# Altium footprint library Temperature sensor.PcbLib: 3 footprints
Each footprint in its own frame and in the unit in brackets; x right, y up, seen from the top. Pads: shape width x height; smd on the part's side, far side on the other; paste and mask are expansions set on the pad; w line width, h text height; cw(c..) or ccw(c..) is an arc to the next point about the centre after c.
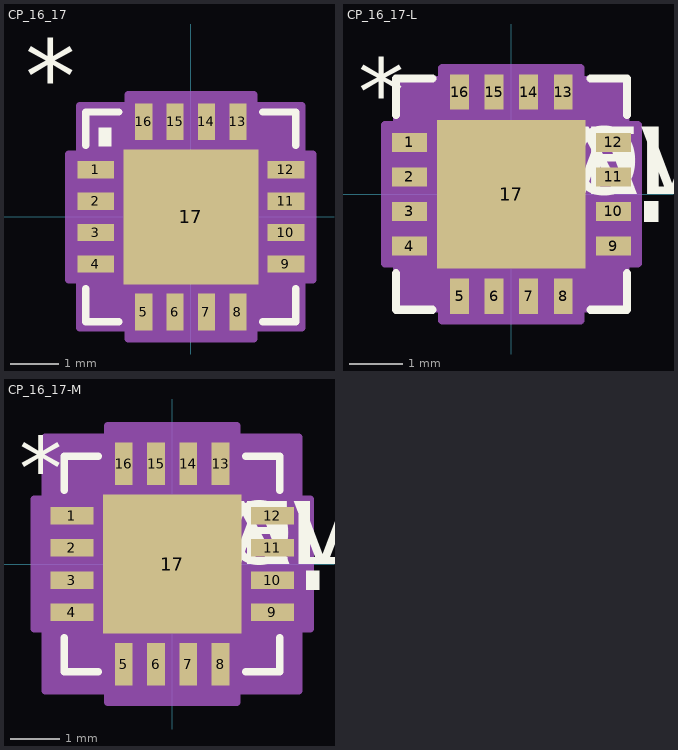
[diagram p0: the footprints below, top view; thin cyan lines are the x and y axes]

## CP_16_17 [mil]
pads (17):
  rect 30x14 smd: 1(-77.5,38.39) 2(-77.5,12.8) 3(-77.5,-12.8) 4(-77.5,-38.39) 9(77.5,-38.39) 10(77.5,-12.8) 11(77.5,12.8) 12(77.5,38.39)
  rect 14x30 smd: 5(-38.39,-77.5) 6(-12.8,-77.5) 7(12.8,-77.5) 8(38.39,-77.5) 13(38.39,77.5) 14(12.8,77.5) 15(-12.8,77.5) 16(-38.39,77.5)
  rect 110x110 smd paste-54.5: 17(0,0)
Top Overlay:
  region: -75,72.5 -65,72.5 -65,57.5 -75,57.5
  lines w6: -85.5,-58.49 -85.5,-85.5 -58.49,-85.5 ; -85.5,58.49 -85.5,85.5 -58.49,85.5 ; 58.49,-85.5 85.5,-85.5 85.5,-58.49 ; 58.49,85.5 85.5,85.5 85.5,58.49
  text "*" at -135,85 h60
Top Paste:
  region: 51.06,-3.94 3.94,-3.94 3.94,-51.06 51.06,-51.06
  region: 51.06,51.06 3.94,51.06 3.94,3.94 51.06,3.94
  region: -3.94,-3.94 -51.06,-3.94 -51.06,-51.06 -3.94,-51.06
  region: -3.94,51.06 -51.06,51.06 -51.06,3.94 -3.94,3.94
Mechanical 15:
  region: -51.18,-90.5 -90.5,-90.5 -90.5,-51.18 -99.5,-51.18 -99.5,51.18 -90.5,51.18 -90.5,90.5 -51.18,90.5 -51.18,99.5 51.18,99.5 51.18,90.5 90.5,90.5 90.5,51.18 99.5,51.18 99.5,-51.18 90.5,-51.18 90.5,-90.5 51.18,-90.5 51.18,-99.5 -51.18,-99.5
  lines w6: -99.5,-51.18 -99.5,51.18 -90.5,51.18 -90.5,90.5 -51.18,90.5 -51.18,99.5 51.18,99.5 51.18,90.5 90.5,90.5 90.5,51.18 99.5,51.18 99.5,-51.18 90.5,-51.18 90.5,-90.5 51.18,-90.5 51.18,-99.5 -51.18,-99.5 -51.18,-90.5 -90.5,-90.5 -90.5,-51.18 -99.5,-51.18
3D body "CP_16_17.step": height 29.65, standoff 0, extent -80.7,-80.7 80.71,80.71
3D body: height 10, standoff 0, extent 0,0 10,10

## CP_16_17-L [mil]
pads (17):
  rect 26x14 smd: 1(-75.5,38.39) 2(-75.5,12.8) 3(-75.5,-12.8) 4(-75.5,-38.39) 9(75.5,-38.39) 10(75.5,-12.8) 11(75.5,12.8) 12(75.5,38.39)
  rect 14x26 smd: 5(-38.39,-75.5) 6(-12.8,-75.5) 7(12.8,-75.5) 8(38.39,-75.5) 13(38.39,75.5) 14(12.8,75.5) 15(-12.8,75.5) 16(-38.39,75.5)
  rect 110x110 smd paste-54.5: 17(0,0)
Top Overlay:
  region: 98.5,-5.3 108.5,-5.3 108.5,-20.3 98.5,-20.3
  lines w6: -85.5,-58.49 -85.5,-85.5 -58.49,-85.5 ; -85.5,58.49 -85.5,85.5 -58.49,85.5 ; 58.49,-85.5 85.5,-85.5 85.5,-58.49 ; 58.49,85.5 85.5,85.5 85.5,58.49
  text "*" at -113.5,51.18 h50
  text "PN" at 0,0 h50
  text "DEV" at 0,0 h50
  text "VAL" at 0,0 h50
  text "TOL" at 0,0 h50
Top Paste:
  region: -3.94,51.06 -51.06,51.06 -51.06,3.94 -3.94,3.94
  region: -3.94,-3.94 -51.06,-3.94 -51.06,-51.06 -3.94,-51.06
  region: 51.06,51.06 3.94,51.06 3.94,3.94 51.06,3.94
  region: 51.06,-3.94 3.94,-3.94 3.94,-51.06 51.06,-51.06
Mechanical 13:
  text "*" at -62.5,51.18 h50
  text "RefDes2" at 0,0 h50
Mechanical 15:
  region: -51.18,-84.5 -84.5,-84.5 -84.5,-51.18 -93.5,-51.18 -93.5,51.18 -84.5,51.18 -84.5,84.5 -51.18,84.5 -51.18,93.5 51.18,93.5 51.18,84.5 84.5,84.5 84.5,51.18 93.5,51.18 93.5,-51.18 84.5,-51.18 84.5,-84.5 51.18,-84.5 51.18,-93.5 -51.18,-93.5
  lines w6: -93.5,-51.18 -84.5,-51.18 -84.5,-84.5 -51.18,-84.5 -51.18,-93.5 51.18,-93.5 51.18,-84.5 84.5,-84.5 84.5,-51.18 93.5,-51.18 93.5,51.18 84.5,51.18 84.5,84.5 51.18,84.5 51.18,93.5 -51.18,93.5 -51.18,84.5 -84.5,84.5 -84.5,51.18 -93.5,51.18 -93.5,-51.18
3D body: height 10, standoff 0, extent 0,0 10,10

## CP_16_17-M [mil]
pads (17):
  rect 34x14 smd: 1(-79.5,38.39) 2(-79.5,12.8) 3(-79.5,-12.8) 4(-79.5,-38.39) 9(79.5,-38.39) 10(79.5,-12.8) 11(79.5,12.8) 12(79.5,38.39)
  rect 14x34 smd: 5(-38.39,-79.5) 6(-12.8,-79.5) 7(12.8,-79.5) 8(38.39,-79.5) 13(38.39,79.5) 14(12.8,79.5) 15(-12.8,79.5) 16(-38.39,79.5)
  rect 110x110 smd paste-54.5: 17(0,0)
Top Overlay:
  region: 106.5,-5.3 116.5,-5.3 116.5,-20.3 106.5,-20.3
  lines w6: -85.5,-58.49 -85.5,-85.5 -58.49,-85.5 ; -85.5,58.49 -85.5,85.5 -58.49,85.5 ; 58.49,-85.5 85.5,-85.5 85.5,-58.49 ; 58.49,85.5 85.5,85.5 85.5,58.49
  text "*" at -121.5,51.18 h50
  text "PN" at 0,0 h50
  text "DEV" at 0,0 h50
  text "VAL" at 0,0 h50
  text "TOL" at 0,0 h50
Top Paste:
  region: -3.94,51.06 -51.06,51.06 -51.06,3.94 -3.94,3.94
  region: -3.94,-3.94 -51.06,-3.94 -51.06,-51.06 -3.94,-51.06
  region: 51.06,51.06 3.94,51.06 3.94,3.94 51.06,3.94
  region: 51.06,-3.94 3.94,-3.94 3.94,-51.06 51.06,-51.06
Mechanical 13:
  text "*" at -62.5,51.18 h50
  text "RefDes2" at 0,0 h50
Mechanical 15:
  region: -51.18,-100.5 -100.5,-100.5 -100.5,-51.18 -109.5,-51.18 -109.5,51.18 -100.5,51.18 -100.5,100.5 -51.18,100.5 -51.18,109.5 51.18,109.5 51.18,100.5 100.5,100.5 100.5,51.18 109.5,51.18 109.5,-51.18 100.5,-51.18 100.5,-100.5 51.18,-100.5 51.18,-109.5 -51.18,-109.5
  lines w6: -109.5,-51.18 -100.5,-51.18 -100.5,-100.5 -51.18,-100.5 -51.18,-109.5 51.18,-109.5 51.18,-100.5 100.5,-100.5 100.5,-51.18 109.5,-51.18 109.5,51.18 100.5,51.18 100.5,100.5 51.18,100.5 51.18,109.5 -51.18,109.5 -51.18,100.5 -100.5,100.5 -100.5,51.18 -109.5,51.18 -109.5,-51.18
3D body: height 10, standoff 0, extent 0,0 10,10